# Altium schematic symbol library 编码电子锁.SCHLIB: 14 symbols
Pins are listed as number, name and electrical type; pins without a type are passive.

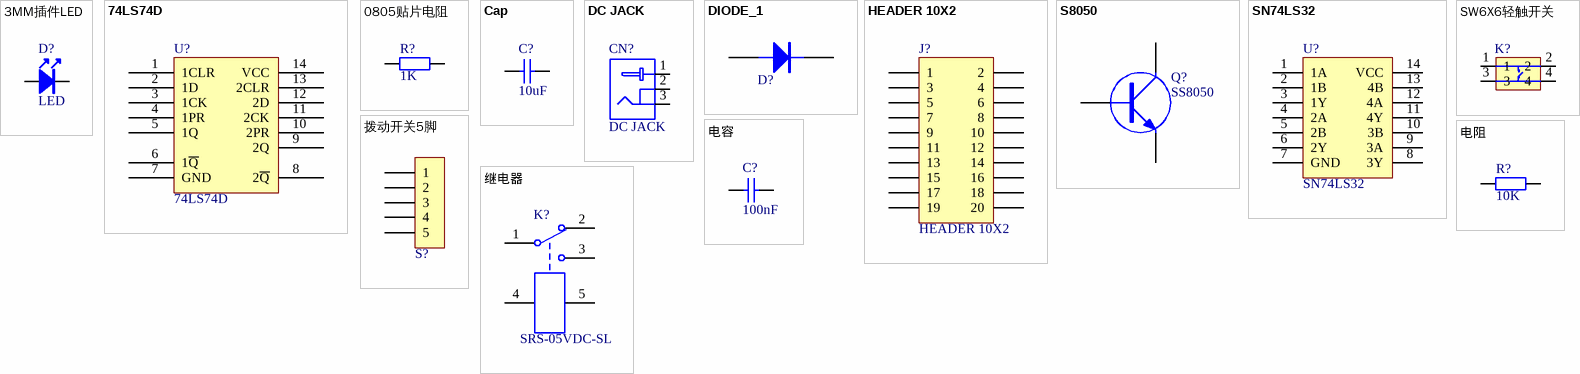
[diagram p0: symbols 3MM插件LED to 继电器]

## 3MM插件LED
designator D?, comment LED
3MM插件LED，绿发绿光，3mm
footprint 3MM插件LED
footprint 3MM插件LED灯插到低
pins: 1 "D", 2

## 74LS74D
designator U?
footprint 74LS74D
pins: 1 1CLR, 2 1D, 3 1CK, 4 1PR, 5 1Q, 6 1~{Q}, 7 GND, 8 2~{Q}, 9 2Q, 10 2PR, 11 2CK, 12 2D, 13 2CLR, 14 VCC

## 0805贴片电阻
designator R?, comment 1K
1KΩ,0805,±5%
footprint 0805贴片电阻
pins: 1, 2

## Cap
designator C?, comment 10uF
10uF，0805，25V,+/-10%; Published: 8-Jun-2000; LatestRevisionDate: 17-Jul-2002; LatestRevisionNote: Re-released for DXP Platform.; PackageReference: RAD-0.3; Publisher: Altium Limited; Value: 10uF
simulation model CAP (Capacitor)
signal-integrity model Cap
footprint 6-0805 (Chip Resistor; Body 2.0 x 1.3 mm (LxW typ))
footprint 0805 (Chip Resistor; Body 2.0 x 1.3 mm (LxW typ))
footprint 0805正
pins: 1, 2

## DC JACK
designator CN?
DC JACK电源插座,5.5mm孔径,3脚接插件
footprint DC JACK
pins: 1, 2, 3

## DIODE_1
designator D?, comment 1N4148  (value not drawn)
footprint 1N5819
pins: 1 A, 2 K

## HEADER 10X2
designator J?
footprint HDR2X10 (Connector; Header; 10x2 Position)
pins: 1, 2, 3, 4, 5, 6, 7, 8, 9, 10, 11, 12, 13, 14, 15, 16, 17, 18, 19, 20

## S8050
designator Q?, comment SS8050
SOT23,3-pin,NPN型三极管，s8050
footprint S8050
pins: 1 B, 2 E, 3 C

## SN74LS32
designator U?
footprint 74LS32
pins: 1 1A, 2 1B, 3 1Y, 4 2A, 5 2B, 6 2Y, 7 GND, 8 3Y, 9 3A, 10 3B, 11 4Y, 12 4A, 13 4B, 14 VCC

## SW6X6轻触开关
designator K?  (value not drawn)
6*6mm*4.5mm轻触开关,4脚插件,180°
footprint SW6X6轻触开关
pins: 1, 2, 3, 4

## 拨动开关5脚
designator S?, comment CON5  (value not drawn)
SWITCH
footprint 拨动开关5脚
pins: 1, 2, 3, 4, 5

## 电容
designator C?, comment 100nF
100nF，0805，+/-10%; Value: 10nF; Published: 8-Jun-2000; LatestRevisionDate: 17-Jul-2002; LatestRevisionNote: Re-released for DXP Platform.; PackageReference: RAD-0.3; Publisher: Altium Limited
simulation model CAP (Capacitor)
signal-integrity model Cap
footprint 6-0805 (Chip Resistor; Body 2.0 x 1.3 mm (LxW typ))
footprint 0805 (Chip Resistor; Body 2.0 x 1.3 mm (LxW typ))
footprint 0805正
footprint 0805 (Chip Resistor; Body 2.0 x 1.3 mm (LxW typ))
pins: 1, 2

## 电阻
designator R?, comment 10K
10kΩ，0805，+/-5%; Published: 8-Jun-2000; LatestRevisionDate: 17-Jul-2002; LatestRevisionNote: Re-released for DXP Platform.; PackageReference: AXIAL-0.4; Publisher: Altium Limited; Value: 10K
footprint 0805 (Chip Resistor; Body 2.0 x 1.3 mm (LxW typ))
pins: 1, 2

## 继电器
designator K?, comment SRS-05VDC-SL
footprint 继电器
pins: 1, 2, 3, 4, 5